# Altium footprint library Ceramic Capacitor.PcbLib: 1 footprints
Each footprint in its own frame and in the unit in brackets; x right, y up, seen from the top. Pads: shape width x height; smd on the part's side, far side on the other; paste and mask are expansions set on the pad; w line width, h text height; cw(c..) or ccw(c..) is an arc to the next point about the centre after c.
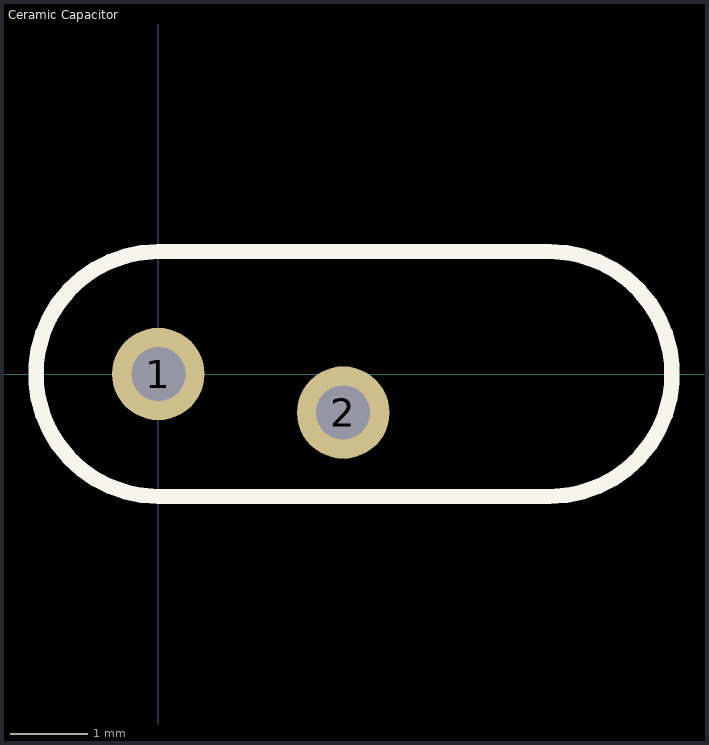
[diagram p0: the footprint, top view; thin cyan lines are the x and y axes]

## Ceramic Capacitor [mm]
pads (2):
  round 1.2 hole 0.7: 1(0,0) 2(2.4,-0.5)
Top Overlay:
  lines w0.2: 0,-1.59 cw(c0,0) 0,1.59 5.08,1.59 cw(c5.08,0) 5.08,-1.59 0,-1.59
3D body "User Library-Cer-Cap2 (3_5x1_5).STEP": height 3.5, standoff -3, extent -0.55,-1.05 2.95,0.451